# EAGLE library part 61302021821 (library Wurth_Elektronik2)
WR-PHD 2.54mm Dual Socket Header, 20 Pins =>Code : Con_BTB_SHD_2.54_2_61302021821 <http://katalog.we-online.de/media/images/eican/Con_BTB_SHD_2.54_2_6130xx21821_pf2.jpg> Details see: http://katalog.we-online.de/en/em/613_0xx_218_21 Created 2014-05-29, Karrer Zheng 2014 (C) Würth Elektronik
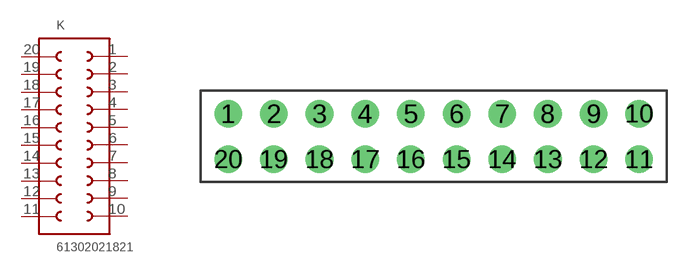
[diagram p116: symbol with the pads of 61302021821; footprint 61302021821]

Designator prefix K

## 61302021821  [61302021821]
1  1  pas
2  2  pas
3  3  pas
4  4  pas
5  5  pas
6  6  pas
7  7  pas
8  8  pas
9  9  pas
10  10  pas
11  11  pas
12  12  pas
13  13  pas
14  14  pas
15  15  pas
16  16  pas
17  17  pas
18  18  pas
19  19  pas
20  20  pas

## Footprint 61302021821 (pad centres in mm)
WR-PHD 2.54mm Dual Socket Header, 20 Pins
drill 1.02: 1 -11.43,1.27; 2 -8.89,1.27; 3 -6.35,1.27; 4 -3.81,1.27; 5 -1.27,1.27; 6 1.27,1.27; 7 3.81,1.27; 8 6.35,1.27; 9 8.89,1.27; 10 11.43,1.27; 11 11.43,-1.27; 12 8.89,-1.27; 13 6.35,-1.27; 14 3.81,-1.27; 15 1.27,-1.27; 16 -1.27,-1.27; 17 -3.81,-1.27; 18 -6.35,-1.27; 19 -8.89,-1.27; 20 -11.43,-1.27